# EAGLE library part DMG-REG (library Game_Boy)
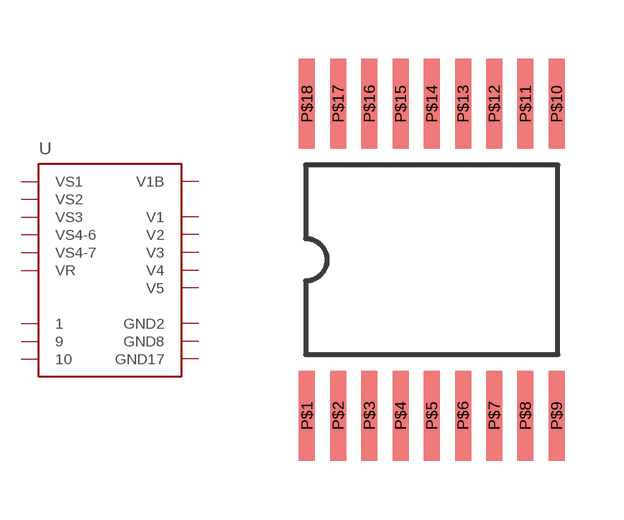
[diagram p7: symbol with the pads of DMG-AMP; footprint DMG-AMP]

Designator prefix -

## DMG-REG  [DMG-AMP]
P$1  1
P$2  GND2
P$3  VS1
P$4  VS2
P$5  VS3
P$6  VS4-6
P$7  VS4-7
P$8  GND8
P$9  9
P$10  10
P$11  V1B
P$12  V1
P$13  V4
P$14  V5
P$15  V2
P$16  V3
P$17  GND17
P$18  VR

## Footprint DMG-AMP (pad centres in mm)
smd 0.406 x 2.286: P$1 -3.175,-3.969; P$2 -2.381,-3.969; P$3 -1.587,-3.969; P$4 -0.794,-3.969; P$5 0,-3.969; P$6 0.794,-3.969; P$7 1.587,-3.969; P$8 2.381,-3.969; P$9 3.175,-3.969; P$10 3.175,3.969; P$11 2.381,3.969; P$12 1.587,3.969; P$13 0.794,3.969; P$14 0,3.969; P$15 -0.794,3.969; P$16 -1.587,3.969; P$17 -2.381,3.969; P$18 -3.175,3.969